# EAGLE library part DUMMY-QFN48 (library esbd-chips)
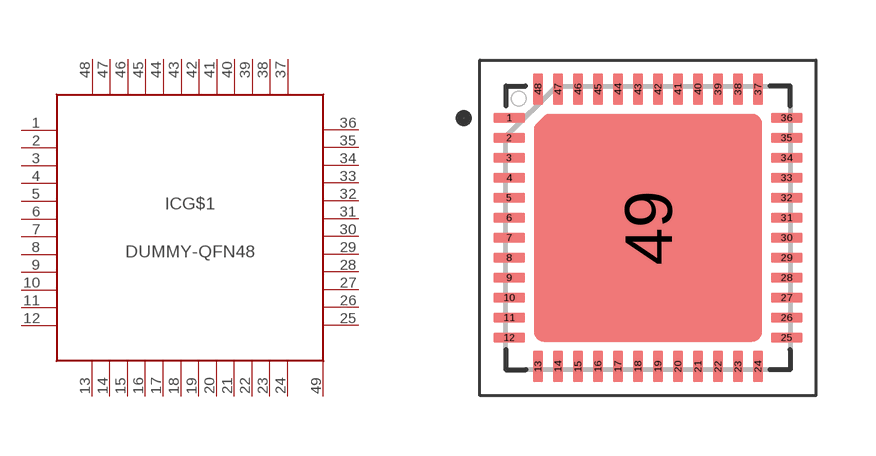
[diagram p33: symbol with the pads of QFN48_7.00X7.00MM; footprint QFN48_7.00X7.00MM]

Designator prefix IC; gates EP=PIN G$1=DUMMY_12-12-12-12

## DUMMY-QFN48  [QFN48_7.00X7.00MM]
1  G$1:1  pas
2  G$1:2  pas
3  G$1:3  pas
4  G$1:4  pas
5  G$1:5  pas
6  G$1:6  pas
7  G$1:7  pas
8  G$1:8  pas
9  G$1:9  pas
10  G$1:10  pas
11  G$1:11  pas
12  G$1:12  pas
13  G$1:13  pas
14  G$1:14  pas
15  G$1:15  pas
16  G$1:16  pas
17  G$1:17  pas
18  G$1:18  pas
19  G$1:19  pas
20  G$1:20  pas
21  G$1:21  pas
22  G$1:22  pas
23  G$1:23  pas
24  G$1:24  pas
25  G$1:25  pas
26  G$1:26  pas
27  G$1:27  pas
28  G$1:28  pas
29  G$1:29  pas
30  G$1:30  pas
31  G$1:31  pas
32  G$1:32  pas
33  G$1:33  pas
34  G$1:34  pas
35  G$1:35  pas
36  G$1:36  pas
37  G$1:37  pas
38  G$1:38  pas
39  G$1:39  pas
40  G$1:40  pas
41  G$1:41  pas
42  G$1:42  pas
43  G$1:43  pas
44  G$1:44  pas
45  G$1:45  pas
46  G$1:46  pas
47  G$1:47  pas
48  G$1:48  pas
49  EP:1  pas

## Footprint QFN48_7.00X7.00MM (pad centres in mm)
http://ww1.microchip.com/downloads/en/DeviceDoc/48L_QFN_7x7_with_5_1x5_1_EP_Punch_Dimple_5E_C04-0363A.pdf
smd 0.79 x 0.26: 1 -3.47,2.75; 2 -3.47,2.25; 3 -3.47,1.75; 4 -3.47,1.25; 5 -3.47,0.75; 6 -3.47,0.25; 7 -3.47,-0.25; 8 -3.47,-0.75; 9 -3.47,-1.25; 10 -3.47,-1.75; 11 -3.47,-2.25; 12 -3.47,-2.75; 25 3.47,-2.75; 26 3.47,-2.25; 27 3.47,-1.75; 28 3.47,-1.25; 29 3.47,-0.75; 30 3.47,-0.25; 31 3.47,0.25; 32 3.47,0.75; 33 3.47,1.25; 34 3.47,1.75; 35 3.47,2.25; 36 3.47,2.75
smd 0.26 x 0.79: 13 -2.75,-3.47; 14 -2.25,-3.47; 15 -1.75,-3.47; 16 -1.25,-3.47; 17 -0.75,-3.47; 18 -0.25,-3.47; 19 0.25,-3.47; 20 0.75,-3.47; 21 1.25,-3.47; 22 1.75,-3.47; 23 2.25,-3.47; 24 2.75,-3.47; 37 2.75,3.47; 38 2.25,3.47; 39 1.75,3.47; 40 1.25,3.47; 41 0.75,3.47; 42 0.25,3.47; 43 -0.25,3.47; 44 -0.75,3.47; 45 -1.25,3.47; 46 -1.75,3.47; 47 -2.25,3.47; 48 -2.75,3.47
smd 5.15 x 5.15: 49 0,0